# Altium footprint library WDX-DIY-PCB.PCBLIB: 138 footprints (part 2 of 9)
Each footprint in its own frame and in the unit in brackets; x right, y up, seen from the top. Pads: shape width x height; smd on the part's side, far side on the other; paste and mask are expansions set on the pad; w line width, h text height; cw(c..) or ccw(c..) is an arc to the next point about the centre after c.
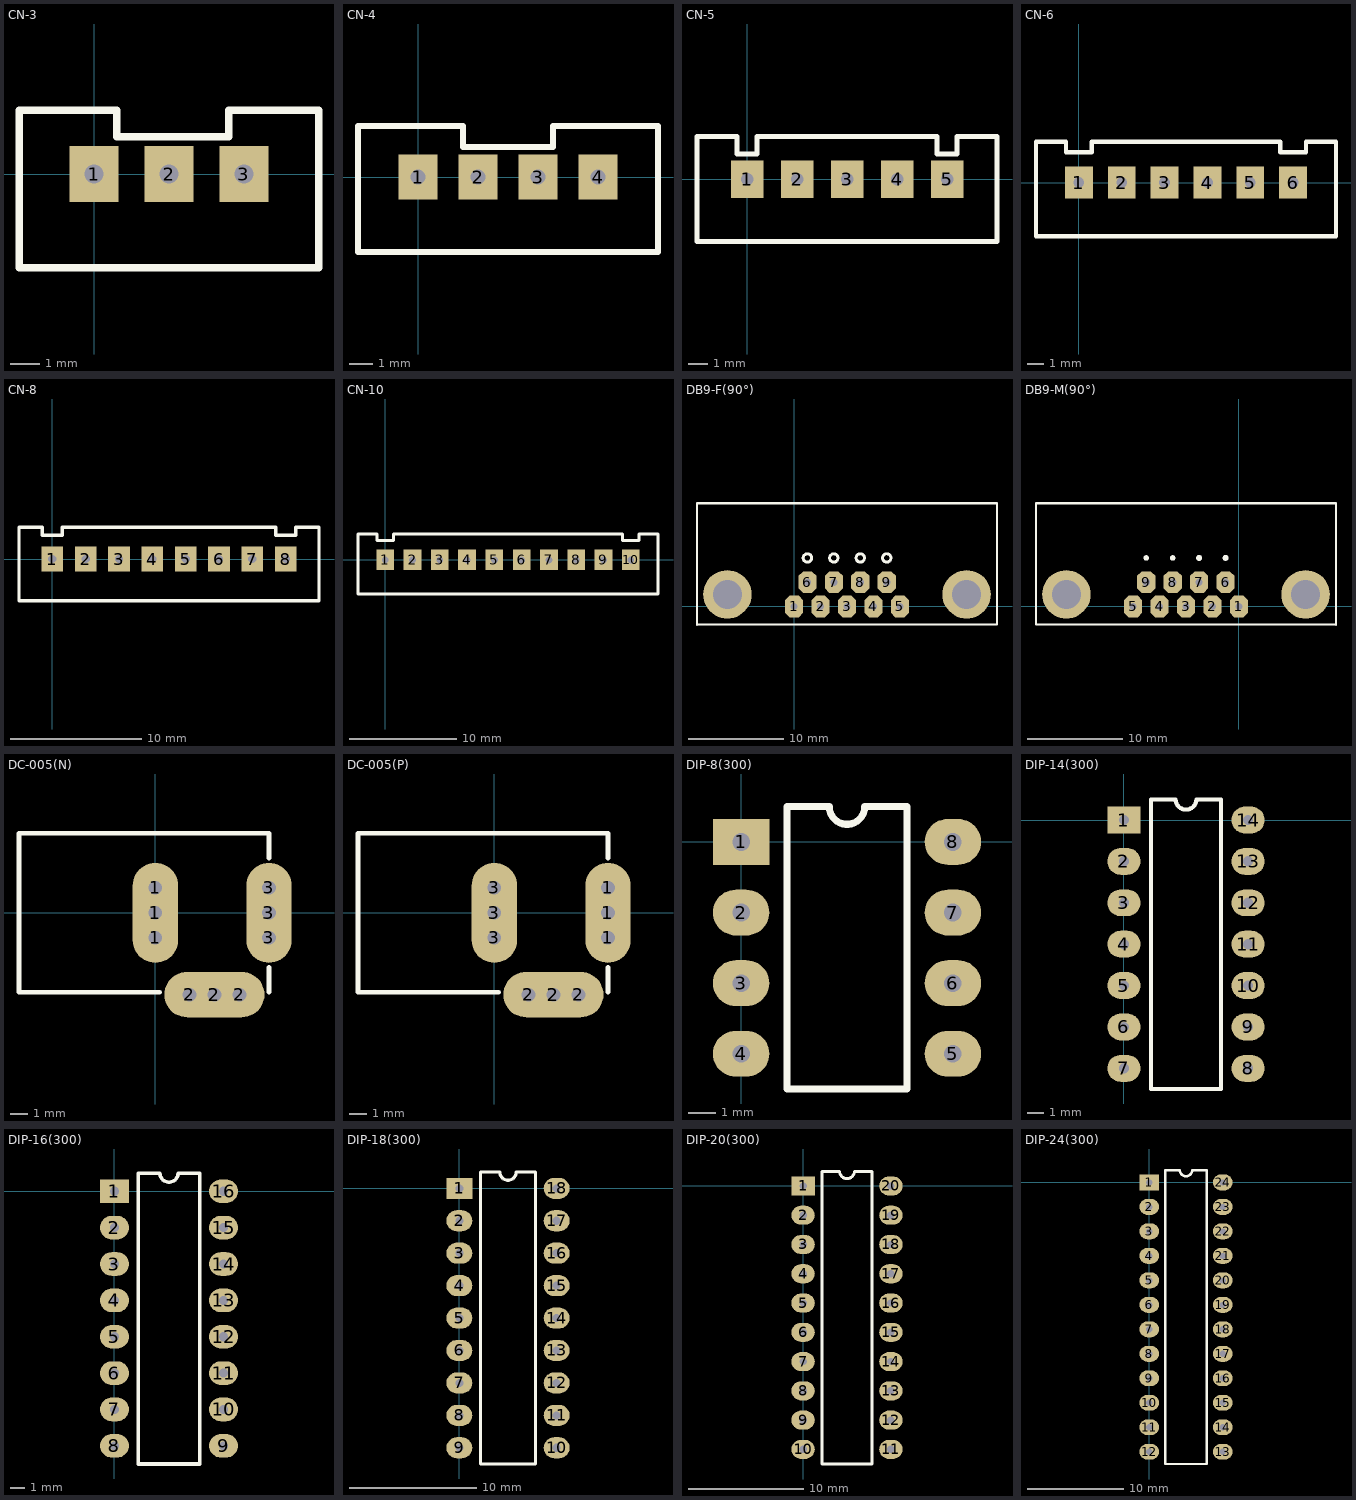
[diagram p1: the footprints below, top view; thin cyan lines are the x and y axes]

## CN-3 [mil]
pads (3):
  rect 65x75 hole 25: 1(0,0) 2(100,0) 3(200,0)
TopOverlay:
  lines w10: -100,-125 300,-125 300,85 180,85 180,50 30,50 30,85 -100,85 -100,-125

## CN-4 [mil]
pads (4):
  rect 65x75 hole 25: 1(0,0) 2(100,0) 3(200,0) 4(300,0)
TopOverlay:
  lines w10: -100,-125 -100,85 75,85 75,50 225,50 225,85 400,85 400,-125 -100,-125

## CN-5 [mil]
pads (5):
  rect 65x75 hole 25: 1(0,0) 2(100,0) 3(200,0) 4(300,0) 5(400,0)
TopOverlay:
  lines w10: -100,-125 500,-125 500,85 420,85 420,50 380,50 380,85 20,85 20,50 -20,50 -20,85 -100,85 -100,-125

## CN-6 [mil]
pads (6):
  rect 65x75 hole 25: 1(0,0) 2(100,0) 3(200,0) 4(300,0) 5(400,0) 6(500,0)
TopOverlay:
  lines w10: -100,-125 600,-125 600,95 530,95 530,71 470,71 470,95 30,95 30,71 -30,71 -30,95 -100,95 -100,-125

## CN-8 [mil]
pads (8):
  rect 65x75 hole 25: 1(0,0) 2(100,0) 3(200,0) 4(300,0) 5(400,0) 6(500,0) 7(600,0) 8(700,0)
TopOverlay:
  lines w10: -100,-125 800,-125 800,95 730,95 730,71 670,71 670,95 30,95 30,71 -30,71 -30,95 -100,95 -100,-125

## CN-10 [mil]
pads (10):
  rect 65x75 hole 25: 1(0,0) 2(100,0) 3(200,0) 4(300,0) 5(400,0) 6(500,0) 7(600,0) 8(700,0) 9(800,0) 10(900,0)
TopOverlay:
  lines w10: -100,-125 -100,95 -30,95 -30,71 30,71 30,95 870,95 870,71 930,71 930,95 1000,95 1000,-125 -100,-125

## DB9-F(90°) [mil]
pads (11):
  oct 75x90 hole 30: 1(0,0) 2(109,0) 3(218,0) 4(327,0) 5(436,0) 6(55,100) 7(164,100) 8(273,100) 9(382,100)
  round 200 hole 120: ""(-275,50) ""(711,50)
TopOverlay:
  circle w12: c272.74,200 r17.26
  circle w12: c163.74,200 r17.26
  circle w12: c54.74,200 r17.26
  circle w12: c381.74,200 r17.26
  lines w8: -400,-75 836,-75 836,425
  lines w10: -400,-75 -400,425 836,425

## DB9-M(90°) [mil]
pads (11):
  oct 75x90 hole 30: 1(0,0) 2(-109,0) 3(-218,0) 4(-327,0) 5(-436,0) 6(-55,100) 7(-164,100) 8(-273,100) 9(-382,100)
  round 200 hole 120: ""(-711,50) ""(275,50)
TopOverlay:
  circle w12: c-272.74,200 r5.36
  circle w12: c-54.74,200 r6.26
  circle w12: c-163.74,200 r6.34
  circle w12: c-381.74,200 r5.36
  lines w8: -836,425 -836,-75 400,-75
  lines w10: -836,425 400,425 400,-75

## DC-005(N) [mil]
pads (9):
  round 50 hole 30: 1(0,-55) 1(0,55) 2(75,-180) 2(185,-180) 3(250,-55) 3(250,55)
  oval 100x220 hole 30: 1(0,0) 3(250,0)
  oval 220x100 hole 30: 2(130,-180)
TopOverlay:
  lines w10: 10,-175 -300,-175 -300,175 250,175 250,120 ; 250,-175 250,-120
Mechanical1:
  lines w5: -15,-60 -15,60 15,60 15,-60 -15,-60 ; 70,-195 190,-195 190,-165 70,-165 70,-195 ; 235,-60 235,60 265,60 265,-60 235,-60

## DC-005(P) [mil]
pads (9):
  round 50 hole 30: 1(250,-55) 1(250,55) 2(75,-180) 2(185,-180) 3(0,-55) 3(0,55)
  oval 100x220 hole 30: 1(250,0) 3(0,0)
  oval 220x100 hole 30: 2(130,-180)
TopOverlay:
  lines w10: 10,-175 -300,-175 -300,175 250,175 250,120 ; 250,-175 250,-120
Mechanical1:
  lines w5: -15,-60 15,-60 15,60 -15,60 -15,-60 ; 70,-195 70,-165 190,-165 190,-195 70,-195 ; 235,-60 265,-60 265,60 235,60 235,-60

## DIP-8(300) [mil]
pads (8):
  rect 80x65 hole 25: 1(0,0)
  oval 80x65 hole 25: 2(0,-100) 3(0,-200) 4(0,-300) 5(300,-300) 6(300,-200) 7(300,-100) 8(300,0)
TopOverlay:
  lines w10: 65,-350 65,50 125,50 ccw(c150,50) 175,50 235,50 235,-350 65,-350

## DIP-14(300) [mil]
pads (14):
  rect 80x65 hole 25: 1(0,0)
  oval 80x65 hole 25: 2(0,-100) 3(0,-200) 4(0,-300) 5(0,-400) 6(0,-500) 7(0,-600) 8(300,-600) 9(300,-500) 10(300,-400) 11(300,-300) 12(300,-200) 13(300,-100) 14(300,0)
TopOverlay:
  lines w10: 65,-650 65,50 125,50 ccw(c150,50) 175,50 235,50 235,-650 65,-650

## DIP-16(300) [mil]
pads (16):
  rect 80x65 hole 25: 1(0,0)
  oval 80x65 hole 25: 2(0,-100) 3(0,-200) 4(0,-300) 5(0,-400) 6(0,-500) 7(0,-600) 8(0,-700) 9(300,-700) 10(300,-600) 11(300,-500) 12(300,-400) 13(300,-300) 14(300,-200) 15(300,-100) 16(300,0)
TopOverlay:
  lines w10: 65,-750 235,-750 235,50 175,50 cw(c150,50) 125,50 65,50 65,-750

## DIP-18(300) [mil]
pads (18):
  rect 80x65 hole 25: 1(0,0)
  oval 80x65 hole 25: 2(0,-100) 3(0,-200) 4(0,-300) 5(0,-400) 6(0,-500) 7(0,-600) 8(0,-700) 9(0,-800) 10(300,-800) 11(300,-700) 12(300,-600) 13(300,-500) 14(300,-400) 15(300,-300) 16(300,-200) 17(300,-100) 18(300,0)
TopOverlay:
  lines w10: 65,-850 235,-850 235,50 175,50 cw(c150,50) 125,50 65,50 65,-850

## DIP-20(300) [mil]
pads (20):
  rect 80x65 hole 25: 1(0,0)
  oval 80x65 hole 25: 2(0,-100) 3(0,-200) 4(0,-300) 5(0,-400) 6(0,-500) 7(0,-600) 8(0,-700) 9(0,-800) 10(0,-900) 11(300,-900) 12(300,-800) 13(300,-700) 14(300,-600) 15(300,-500) 16(300,-400) 17(300,-300) 18(300,-200) 19(300,-100) 20(300,0)
TopOverlay:
  lines w10: 65,-950 65,50 125,50 ccw(c150,50) 175,50 235,50 235,-950 65,-950

## DIP-24(300) [mil]
pads (24):
  rect 80x65 hole 25: 1(0,0)
  oval 80x65 hole 25: 2(0,-100) 3(0,-200) 4(0,-300) 5(0,-400) 6(0,-500) 7(0,-600) 8(0,-700) 9(0,-800) 10(0,-900) 11(0,-1000) 12(0,-1100) 13(300,-1100) 14(300,-1000) 15(300,-900) 16(300,-800) 17(300,-700) 18(300,-600) 19(300,-500) 20(300,-400) 21(300,-300) 22(300,-200) 23(300,-100) 24(300,0)
TopOverlay:
  lines w10: 65,-1150 65,50 125,50 ccw(c150,50) 175,50 235,50 235,-1150 65,-1150